# Altium schematic symbol library TPS564201.Schlib: 1 symbol
Pins are listed as number, name and electrical type; pins without a type are passive.

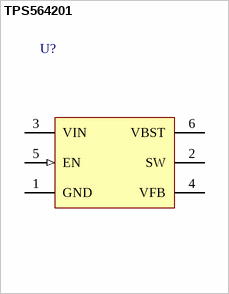
[diagram p0: symbol TPS564201]

## TPS564201
designator U?
4.5-V to 17-V Input, 4-A Synchronous Step-Down Voltage Regulator
pins: 1 GND (power), 2 SW, 3 VIN (power), 4 VFB, 5 EN (in), 6 VBST